# Altium integrated library SJ1-3514N.IntLib: 1 symbol
Pins are listed as number, name and electrical type; pins without a type are passive.

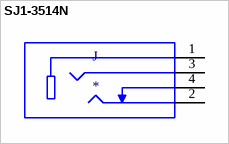
[diagram p0: symbol SJ1-3514N]

## SJ1-3514N
designator J
3.5 mm, Stereo, Right Angle, Through Hole, Audio Jack Connector; MF: CUI Devices; MP: SJ1-3514N; Price: None; Availability: Unavailable; SnapEDA_Link: https://www.snapeda.com/parts/SJ1-3514N/CUI%20Devices/view-part/617955/?ref=snap; Value: *; Package: None; CUI_purchase_URL: https://www.cuidevices.com/product/interconnect/connectors/audio-connectors/jacks/sj1-351xn-series?utm_source=snapeda.com&utm_medium=referral&utm_campaign=snapedaBOM
footprint CUI_SJ1-3514N
pins: 1, 2, 3, 4